# Altium footprint library Main.PcbLib: 120 footprints (part 2 of 8)
Each footprint in its own frame and in the unit in brackets; x right, y up, seen from the top. Pads: shape width x height; smd on the part's side, far side on the other; paste and mask are expansions set on the pad; w line width, h text height; cw(c..) or ccw(c..) is an arc to the next point about the centre after c.
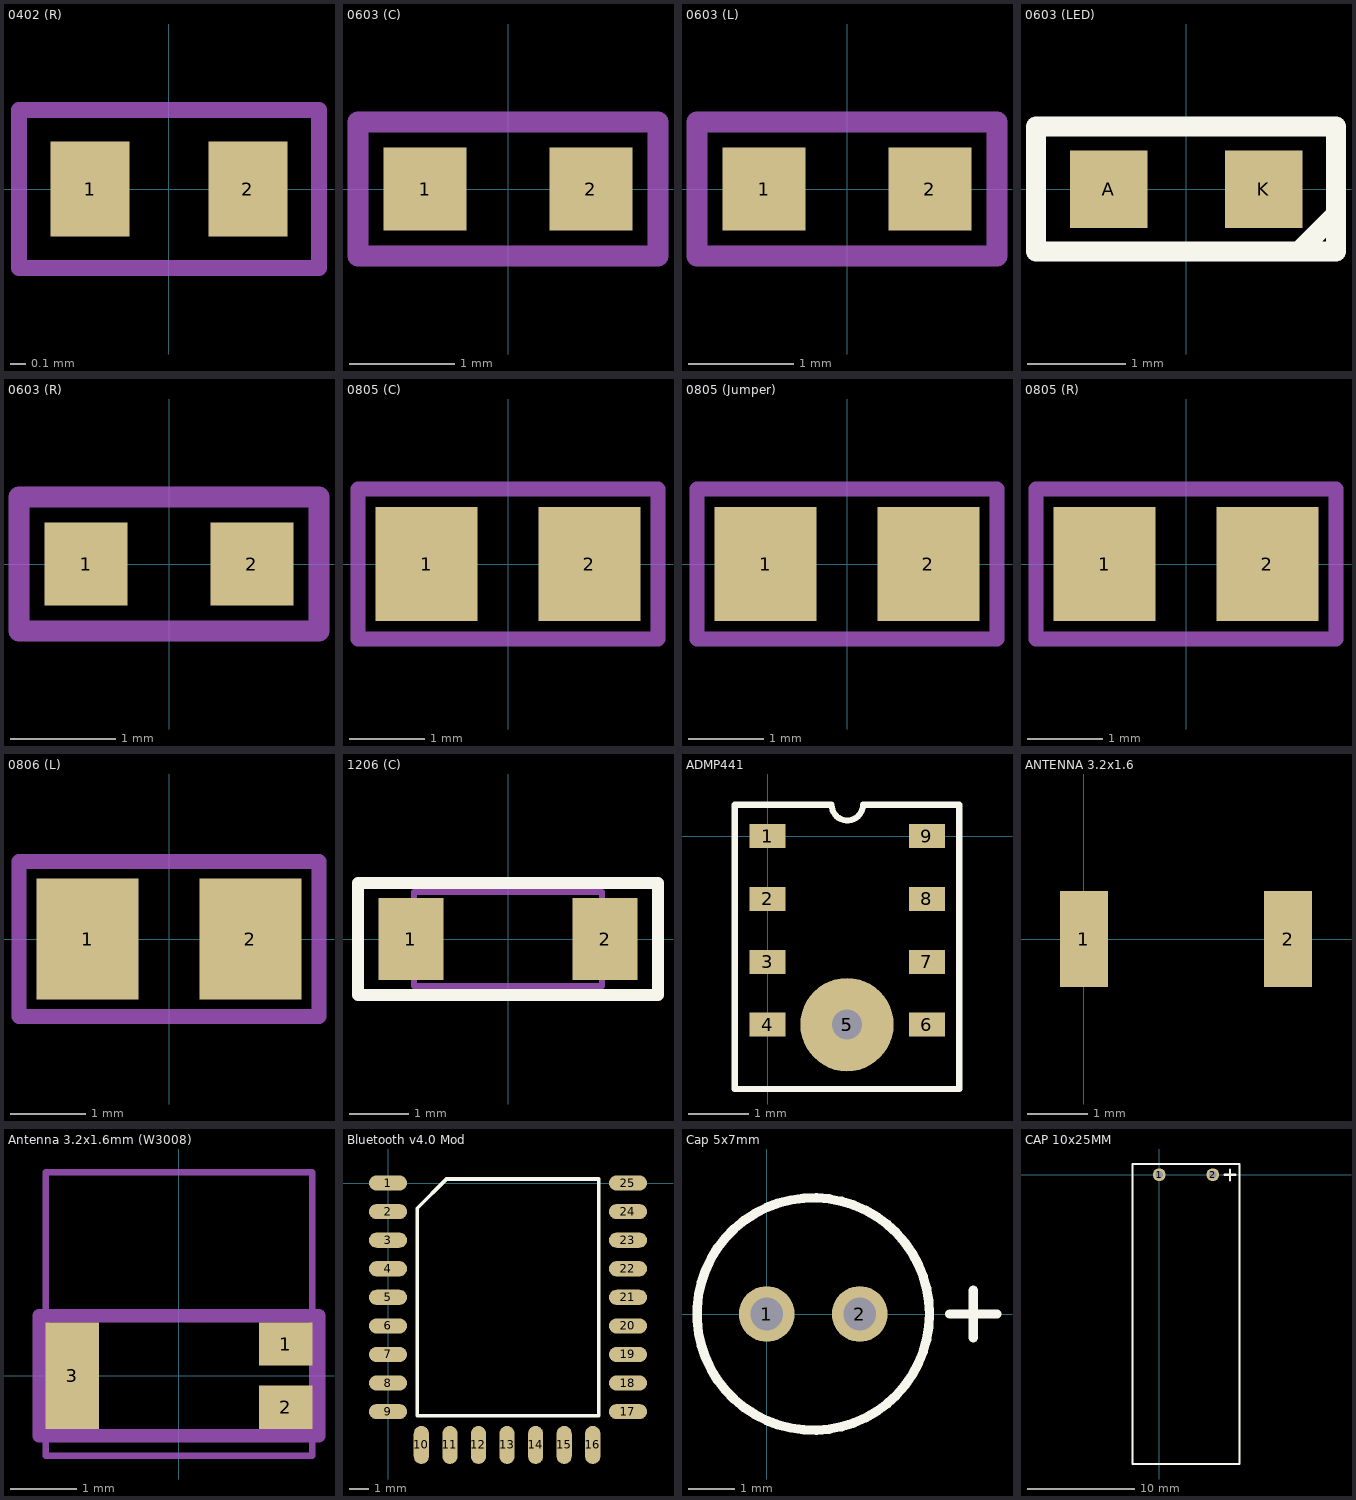
[diagram p1: the footprints below, top view; thin cyan lines are the x and y axes]

## 0402 (R) [mm]
pads (2):
  rect 0.5x0.6 smd: 1(-0.5,0) 2(0.5,0)
Mechanical 29:
  lines w0.102: -0.95,-0.5 0.95,-0.5 0.95,0.5 -0.95,0.5 -0.95,-0.5
  text ".Designator" at -0.5,-0.2 h0.38
3D body: height 0.3, standoff 0, extent -0.5,-0.25 0.5,0.25

## 0603 (C) [mil]
pads (2):
  rect 31x31 smd: 1(-31,0) 2(31,0)
Mechanical 29:
  lines w7.87: -56.1,-25 56.1,-25 56.1,25 -56.1,25 -56.1,-25
  text ".Designator" at -19.68,-7.87 h15
3D body: height 31.5, standoff 0, extent -31.5,-14.76 31.5,14.76
3D body: height 32.28, standoff 0, extent -32.48,-15.75 -15.75,15.75
3D body: height 32.28, standoff 0, extent 15.75,-15.75 32.48,15.75

## 0603 (L) [mil]
pads (2):
  rect 31x31 smd: 1(-31,0) 2(31,0)
Mechanical 29:
  lines w7.87: -56.1,-25 56.1,-25 56.1,25 -56.1,25 -56.1,-25
  text ".Designator" at -19.68,-7.87 h15
3D body: height 31.5, standoff 0, extent -31.49,-15.74 31.5,15.75

## 0603 (LED) [mil]
pads (2):
  rect 31x31 smd: A(-31,0) K(31,0)
Top Overlay:
  lines w7.87: 45,-25 60,-10 ; -60,-25 -60,25 60,25 60,-25 -60,-25
  text ".Comment" at -46,49 h50
3D body: height 5, standoff 0, extent -33,-13.5 -25,13.5
3D body: height 26, standoff 5, extent -25,-15 25,15
3D body: height 5, standoff 0, extent -25,-15 25,15
3D body: height 5, standoff 0, extent 25,-13.5 33,13.5

## 0603 (R) [mil]
pads (2):
  rect 31x31 smd: 1(-31,0) 2(31,0)
Mechanical 29:
  lines w7.87: -56.1,-25 -56.1,25 56.1,25 56.1,-25 -56.1,-25
  text ".Designator" at -19.68,-7.87 h15
3D body: height 16.54, standoff 0, extent 15.75,-15.75 32.48,15.75
3D body: height 16.54, standoff 0, extent -32.48,-15.75 -15.75,15.75
3D body: height 15.75, standoff 0, extent -31.5,-14.76 31.5,14.76

## 0805 (C) [mm] "Chip Resistor, 2-Leads, Body 2.0x1.3mm, IPC Low Density"
height 0.55
pads (2):
  rect 1.35x1.5 smd: 1(-1.075,0) 2(1.075,0)
Mechanical 29:
  lines w0.2: 1.93,-0.991 -1.981,-0.991 -1.981,0.991 1.93,0.991 ; 1.981,-0.991 1.981,0.991
  text ".Designator" at -0.925,-0.375 h0.76
3D body: height 1, standoff 0, extent -1.075,-0.7 1.075,0.7

## 0805 (Jumper) [mm] "Solder Jumper, 2-Leads"
height 0.55
pads (2):
  rect 1.35x1.5 smd: 1(-1.075,0) 2(1.075,0)
Mechanical 29:
  lines w0.2: 1.93,-0.991 -1.981,-0.991 -1.981,0.991 1.93,0.991 ; 1.981,-0.991 1.981,0.991

## 0805 (R) [mm] "Chip Resistor, 2-Leads, Body 2.0x1.3mm, IPC Low Density"
height 0.55
pads (2):
  rect 1.35x1.5 smd: 1(-1.075,0) 2(1.075,0)
Mechanical 29:
  lines w0.2: 1.93,-0.991 -1.981,-0.991 -1.981,0.991 1.93,0.991 ; 1.981,-0.991 1.981,0.991
  text ".Designator" at -0.925,-0.375 h0.76
3D body: height 0.55, standoff 0, extent -1.075,-0.7 1.075,0.7

## 0806 (L) [mm] "Chip Resistor, 2-Leads, Body 2.0x1.3mm, IPC Low Density"
height 0.55
pads (2):
  rect 1.35x1.6 smd: 1(-1.075,0) 2(1.075,0)
Mechanical 29:
  lines w0.2: -1.981,-1.025 -1.981,1.025 1.981,1.025 1.981,-1.025 -1.981,-1.025
  text ".Designator" at -0.925,-0.375 h0.76
3D body: height 1, standoff 0, extent -1.075,-0.8 1.075,0.8

## 1206 (C) [mm] "Chip Resistor, 2-Leads, Body 3.2x1.6mm, IPC Low Density"
height 0.55
pads (2):
  rect 1.1x1.4 smd: 1(-1.65,0) 2(1.65,0)
Top Overlay:
  lines w0.2: -2.55,-0.95 -2.55,0.95 2.55,0.95 2.55,-0.95 -2.55,-0.95
Mechanical 13:
  lines w0.1: -1.6,-0.8 -1.6,0.8 1.6,0.8 1.6,-0.8 -1.6,-0.8
3D body: height 0.55, standoff 0, extent -1.6,-0.8 1.6,0.8

## ADMP441 [mm]
pads (10):
  rect 0.6x0.4 smd: 1(0,0) 2(0,-1.05) 3(0,-2.1) 4(0,-3.15) 6(2.66,-3.15) 7(2.66,-2.1) 8(2.66,-1.05) 9(2.66,0)
  round 1.56 smd: 5(1.325,-3.15)
  round 0.5 hole 0.5: 5(1.325,-3.15)
Top Overlay:
  lines w0.102: -0.55,-4.225 3.2,-4.225 3.2,0.525 1.592,0.525 cw(c1.33,0.525) 1.068,0.525 -0.55,0.525 -0.55,-4.225
3D body: height 1.05, standoff 0, extent -0.55,-4.225 3.2,0.525

## ANTENNA 3.2x1.6 [mm]
pads (2):
  rect 0.8x1.6 smd: 1(0,0) 2(3.4,0)
3D body: height 1.3, standoff 0, extent 0.1,-0.8 3.3,0.8

## Antenna 3.2x1.6mm (W3008) [mm]
pads (3):
  rect 0.8x0.65 smd: 1(1.6,0.475) 2(1.6,-0.475)
  rect 0.8x1.6 smd: 3(-1.6,0)
Mechanical 13:
  lines w0.102: -2,-1.2 2,-1.2 2,3.05 -2,3.05 -2,-1.2
Mechanical 29:
  lines w0.2: -2.1,-0.9 -2.1,0.9 2.1,0.9 2.1,-0.9 -2.1,-0.9
  text ".Designator" at -1.05,-0.375 h0.76
3D body: height 1.1, standoff 0, extent -1.6,-0.8 1.6,0.8

## Bluetooth v4.0 Mod [mm]
pads (25):
  oval 2x0.8 smd: 1(0,0) 2(0,-1.5) 3(0,-3) 4(0,-4.5) 5(0,-6) 6(0,-7.5) 7(0,-9) 8(0,-10.5) 9(0,-12) 17(12.6,-12) 18(12.6,-10.5) 19(12.6,-9) 20(12.6,-7.5) 21(12.6,-6) 22(12.6,-4.5) 23(12.6,-3) 24(12.6,-1.5) 25(12.6,0)
  oval 0.8x2 smd: 10(1.75,-13.75) 11(3.25,-13.75) 12(4.75,-13.75) 13(6.25,-13.75) 14(7.75,-13.75) 15(9.25,-13.75) 16(10.75,-13.75)
Top Overlay:
  lines w0.2: 1.535,-12.215 11.065,-12.215 11.065,0.215 3.07,0.215 1.535,-1.32 1.535,-12.215
3D body: height 2.4, standoff 0, extent 0.075,-13.775 12.575,5.725

## Cap 5x7mm [mm]
pads (2):
  round 1.2 hole 0.7: 1(0,0) 2(2,0)
Top Overlay:
  circle w0.2: c1,0 r2.5
  lines w0.2: 3.937,0 4.953,0 ; 4.44,-0.508 4.44,0.508
3D body: height 7.25, standoff 0.25, extent -1.413,-2.444 3.567,2.546

## CAP 10x25MM [mm]
pads (2):
  round 1.2 hole 0.7: 1(0,0) 2(5,0)
Top Overlay:
  lines w0.2: 6.084,0 7.1,0 ; 6.6,-0.516 6.6,0.5 ; -2.5,-27 7.5,-27 7.5,1 -2.5,1 -2.5,-27
3D body: height 11.96, standoff 2, extent -2.49,-27 7.49,-2